# Altium integrated library Altera MAX II.IntLib: 229 symbols (part 19 of 19)
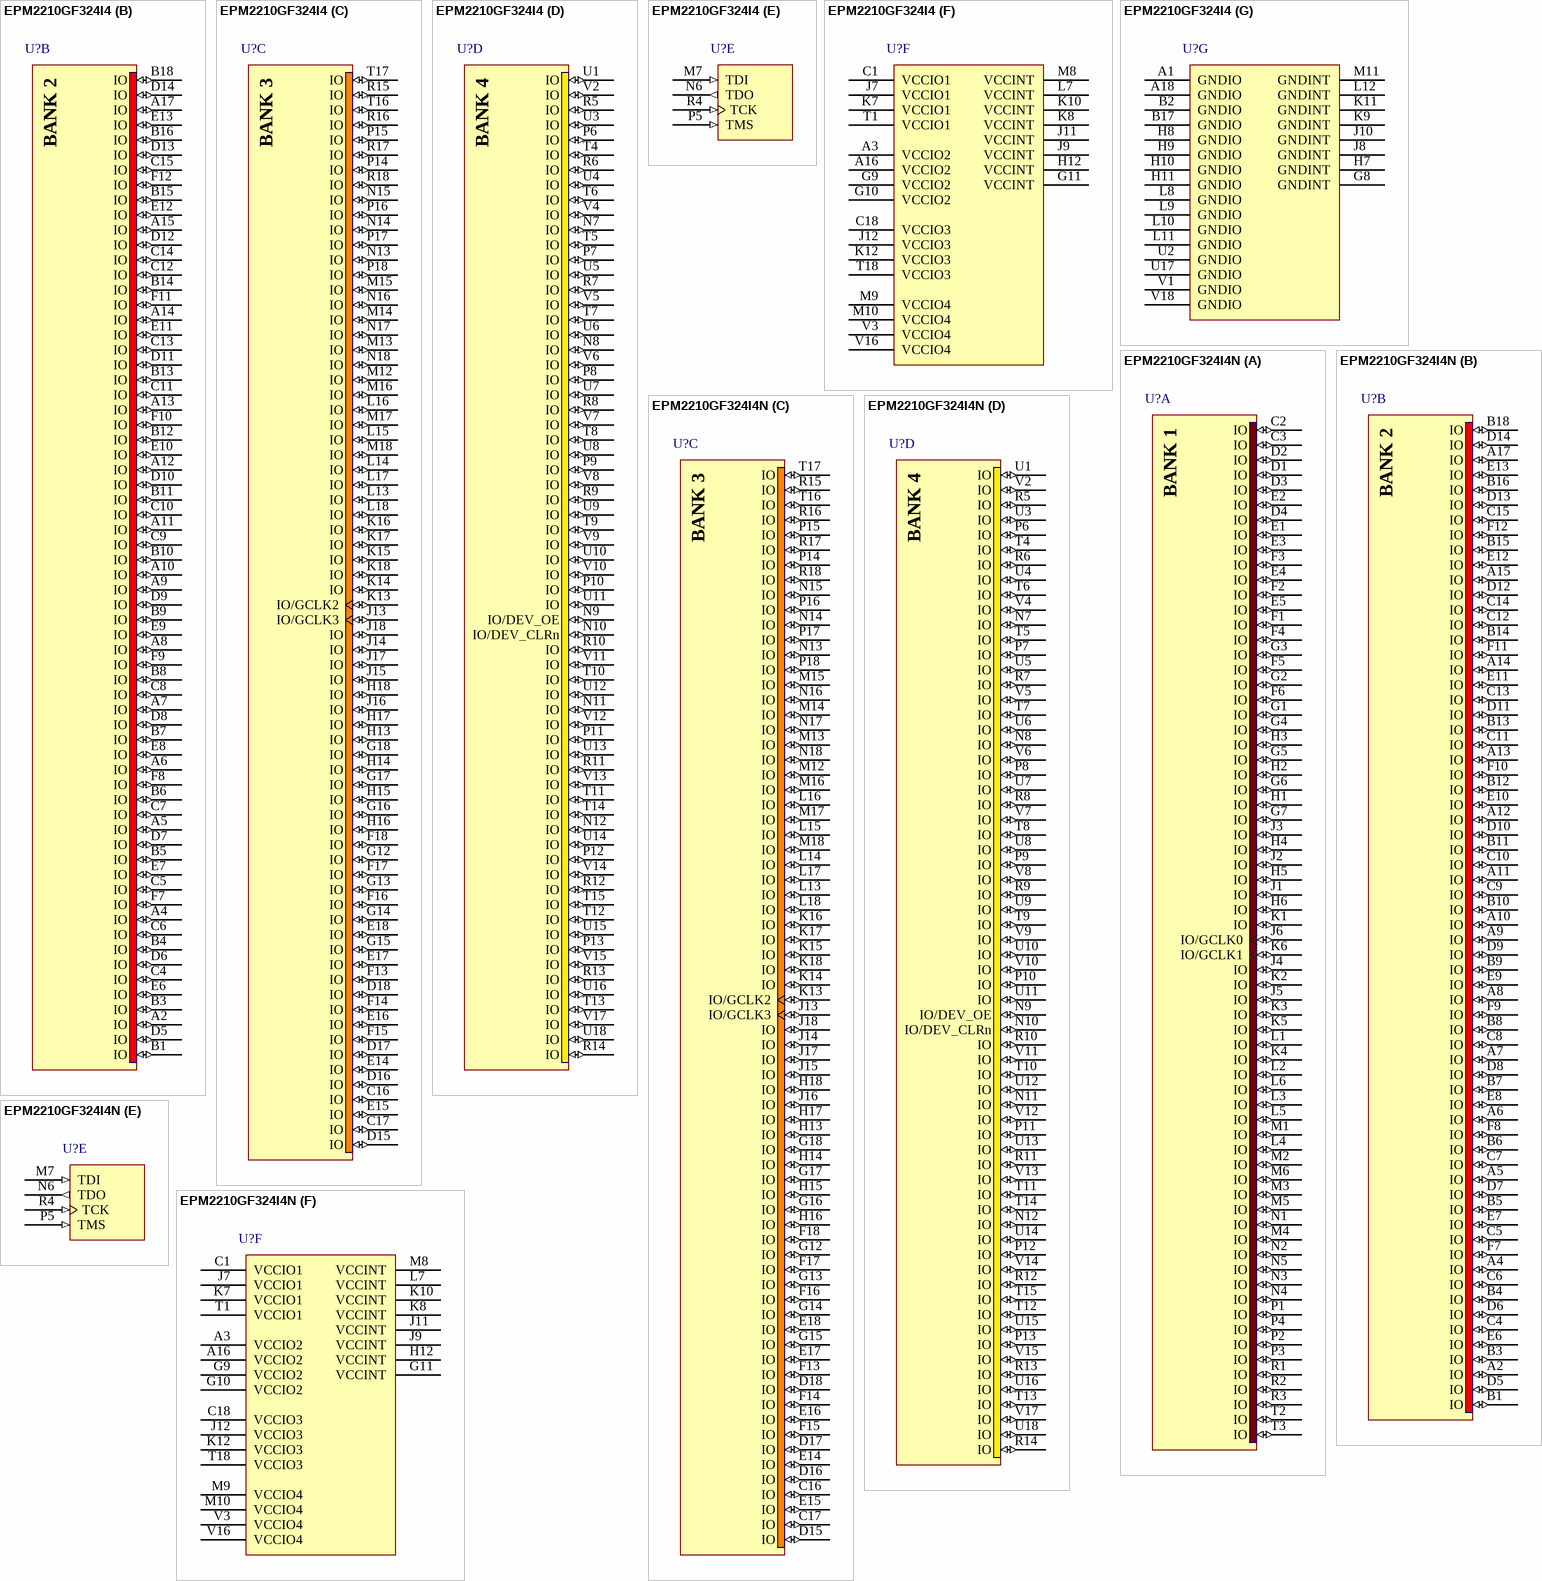
[diagram p142: symbols EPM2210GF324I4 to EPM2210GF324I4N]

## EPM2210GF324I4
designator U?
MAX II 1.8V CPLD, 272 IOs, 2,210 Logic Elements, 324-Pin FineLine BGA, Industrial Temperature, Speed Grade 4; Note: Each set of VCCIO pins can be connected to 3.3V, 2.5V, 1.8V, or 1.5V.; Note: All VCCINT pins must be connected to 1.8V.; Published: 18-Aug-2005; LatestRevisionDate: 13-Apr-2006; LatestRevisionNote: IPC-7351 Footprint Added.; DatasheetVersion: ver1.8, Jul-2006; PackageVersion: ver14.3, Jul-2006; PackageReference: FBGA324; Publisher: Altium Limited; PackageDescription: 324-Ball FineLine Ball Grid Array (FBGA324); Code_JEDEC: MS-034-AAG-1; Code_IPC: BGA100P18X18-324; ComponentLink1Description: Manufacturer Link; ComponentLink1URL: http://www.altera.com/products/devices/cpld/max2/mx2-index.jsp; ComponentLink2Description: Handbook; ComponentLink2URL: http://www.altera.com/literature/hb/max2/max2_mii5v1.pdf; ComponentLink3Description: Packaging Specification; ComponentLink3URL: http://www.altera.com/literature/ds/dspkg.pdf
footprint FBGA324 (BGA, 324-Leads, Body 19x19mm, Pitch 1mm)
3D model EPM2210-FBGA324 (324-Ball FineLine Ball Grid Array (FBGA324))
part A pins: C2 IO (io), C3 IO (io), D1 IO (io), D2 IO (io), D3 IO (io), D4 IO (io), E1 IO (io), E2 IO (io), E3 IO (io), E4 IO (io), E5 IO (io), F1 IO (io), F2 IO (io), F3 IO (io), F4 IO (io), F5 IO (io), F6 IO (io), G1 IO (io), G2 IO (io), G3 IO (io), G4 IO (io), G5 IO (io), G6 IO (io), G7 IO (io), H1 IO (io), H2 IO (io), H3 IO (io), H4 IO (io), H5 IO (io), H6 IO (io), J1 IO (io), J2 IO (io), J3 IO (io), J4 IO (io), J5 IO (io), J6 IO/GCLK0 (io), K1 IO (io), K2 IO (io), K3 IO (io), K4 IO (io), K5 IO (io), K6 IO/GCLK1 (io), L1 IO (io), L2 IO (io), L3 IO (io), L4 IO (io), L5 IO (io), L6 IO (io), M1 IO (io), M2 IO (io), M3 IO (io), M4 IO (io), M5 IO (io), M6 IO (io), N1 IO (io), N2 IO (io), N3 IO (io), N4 IO (io), N5 IO (io), P1 IO (io), P2 IO (io), P3 IO (io), P4 IO (io), R1 IO (io), R2 IO (io), R3 IO (io), T2 IO (io), T3 IO (io)
part B pins: A2 IO (io), A4 IO (io), A5 IO (io), A6 IO (io), A7 IO (io), A8 IO (io), A9 IO (io), A10 IO (io), A11 IO (io), A12 IO (io), A13 IO (io), A14 IO (io), A15 IO (io), A17 IO (io), B1 IO (io), B3 IO (io), B4 IO (io), B5 IO (io), B6 IO (io), B7 IO (io), B8 IO (io), B9 IO (io), B10 IO (io), B11 IO (io), B12 IO (io), B13 IO (io), B14 IO (io), B15 IO (io), B16 IO (io), B18 IO (io), C4 IO (io), C5 IO (io), C6 IO (io), C7 IO (io), C8 IO (io), C9 IO (io), C10 IO (io), C11 IO (io), C12 IO (io), C13 IO (io), C14 IO (io), C15 IO (io), D5 IO (io), D6 IO (io), D7 IO (io), D8 IO (io), D9 IO (io), D10 IO (io), D11 IO (io), D12 IO (io), D13 IO (io), D14 IO (io), E6 IO (io), E7 IO (io), E8 IO (io), E9 IO (io), E10 IO (io), E11 IO (io), E12 IO (io), E13 IO (io), F7 IO (io), F8 IO (io), F9 IO (io), F10 IO (io), F11 IO (io), F12 IO (io)
part C pins: C16 IO (io), C17 IO (io), D15 IO (io), D16 IO (io), D17 IO (io), D18 IO (io), E14 IO (io), E15 IO (io), E16 IO (io), E17 IO (io), E18 IO (io), F13 IO (io), F14 IO (io), F15 IO (io), F16 IO (io), F17 IO (io), F18 IO (io), G12 IO (io), G13 IO (io), G14 IO (io), G15 IO (io), G16 IO (io), G17 IO (io), G18 IO (io), H13 IO (io), H14 IO (io), H15 IO (io), H16 IO (io), H17 IO (io), H18 IO (io), J13 IO/GCLK3 (io), J14 IO (io), J15 IO (io), J16 IO (io), J17 IO (io), J18 IO (io), K13 IO/GCLK2 (io), K14 IO (io), K15 IO (io), K16 IO (io), K17 IO (io), K18 IO (io), L13 IO (io), L14 IO (io), L15 IO (io), L16 IO (io), L17 IO (io), L18 IO (io), M12 IO (io), M13 IO (io), M14 IO (io), M15 IO (io), M16 IO (io), M17 IO (io), M18 IO (io), N13 IO (io), N14 IO (io), N15 IO (io), N16 IO (io), N17 IO (io), N18 IO (io), P14 IO (io), P15 IO (io), P16 IO (io), P17 IO (io), P18 IO (io), R15 IO (io), R16 IO (io), R17 IO (io), R18 IO (io), T16 IO (io), T17 IO (io)
part D pins: N7 IO (io), N8 IO (io), N9 IO/DEV_OE (io), N10 IO/DEV_CLRn (io), N11 IO (io), N12 IO (io), P6 IO (io), P7 IO (io), P8 IO (io), P9 IO (io), P10 IO (io), P11 IO (io), P12 IO (io), P13 IO (io), R5 IO (io), R6 IO (io), R7 IO (io), R8 IO (io), R9 IO (io), R10 IO (io), R11 IO (io), R12 IO (io), R13 IO (io), R14 IO (io), T4 IO (io), T5 IO (io), T6 IO (io), T7 IO (io), T8 IO (io), T9 IO (io), T10 IO (io), T11 IO (io), T12 IO (io), T13 IO (io), T14 IO (io), T15 IO (io), U1 IO (io), U3 IO (io), U4 IO (io), U5 IO (io), U6 IO (io), U7 IO (io), U8 IO (io), U9 IO (io), U10 IO (io), U11 IO (io), U12 IO (io), U13 IO (io), U14 IO (io), U15 IO (io), U16 IO (io), U18 IO (io), V2 IO (io), V4 IO (io), V5 IO (io), V6 IO (io), V7 IO (io), V8 IO (io), V9 IO (io), V10 IO (io), V11 IO (io), V12 IO (io), V13 IO (io), V14 IO (io), V15 IO (io), V17 IO (io)
part E pins: M7 TDI (in), N6 TDO (out), P5 TMS (in), R4 TCK (in)
part F pins: A3 VCCIO2 (power), A16 VCCIO2 (power), C1 VCCIO1 (power), C18 VCCIO3 (power), G9 VCCIO2 (power), G10 VCCIO2 (power), G11 VCCINT (power), H12 VCCINT (power), J7 VCCIO1 (power), J9 VCCINT (power), J11 VCCINT (power), J12 VCCIO3 (power), K7 VCCIO1 (power), K8 VCCINT (power), K10 VCCINT (power), K12 VCCIO3 (power), L7 VCCINT (power), M8 VCCINT (power), M9 VCCIO4 (power), M10 VCCIO4 (power), T1 VCCIO1 (power), T18 VCCIO3 (power), V3 VCCIO4 (power), V16 VCCIO4 (power)
part G pins: A1 GNDIO (power), A18 GNDIO (power), B2 GNDIO (power), B17 GNDIO (power), G8 GNDINT (power), H7 GNDINT (power), H8 GNDIO (power), H9 GNDIO (power), H10 GNDIO (power), H11 GNDIO (power), J8 GNDINT (power), J10 GNDINT (power), K9 GNDINT (power), K11 GNDINT (power), L8 GNDIO (power), L9 GNDIO (power), L10 GNDIO (power), L11 GNDIO (power), L12 GNDINT (power), M11 GNDINT (power), U2 GNDIO (power), U17 GNDIO (power), V1 GNDIO (power), V18 GNDIO (power)
part A text: BANK 1
part B text: BANK 2
part C text: BANK 3
part D text: BANK 4

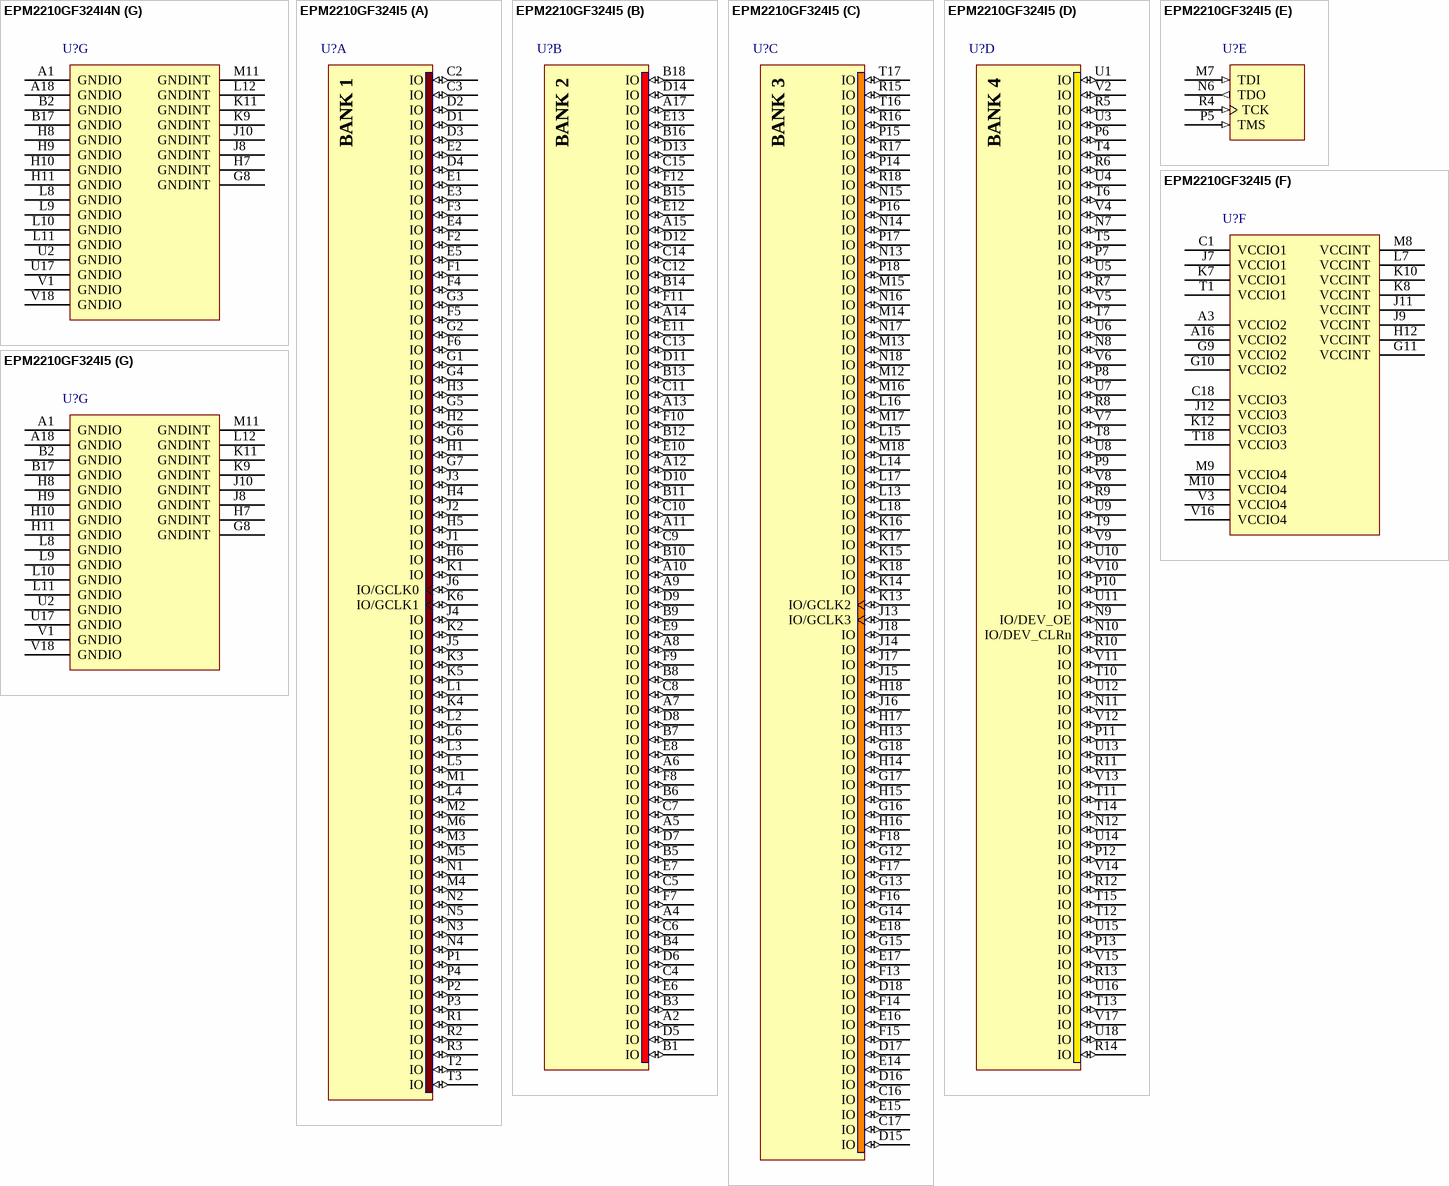
[diagram p123: symbols EPM2210GF324I4N to EPM2210GF324I5]

## EPM2210GF324I4N
designator U?
MAX II 1.8V CPLD, 272 IOs, 2,210 Logic Elements, 324-Pin FineLine BGA, Industrial Temperature, Speed Grade 4, Pb-Free; Note: Each set of VCCIO pins can be connected to 3.3V, 2.5V, 1.8V, or 1.5V.; Note: All VCCINT pins must be connected to 1.8V.; Published: 18-Aug-2005; LatestRevisionDate: 13-Apr-2006; LatestRevisionNote: IPC-7351 Footprint Added.; DatasheetVersion: ver1.8, Jul-2006; PackageVersion: ver14.3, Jul-2006; PackageReference: FBGA324; Publisher: Altium Limited; PackageDescription: 324-Ball FineLine Ball Grid Array (FBGA324); Code_JEDEC: MS-034-AAG-1; Code_IPC: BGA100P18X18-324; ComponentLink1Description: Manufacturer Link; ComponentLink1URL: http://www.altera.com/products/devices/cpld/max2/mx2-index.jsp; ComponentLink2Description: Handbook; ComponentLink2URL: http://www.altera.com/literature/hb/max2/max2_mii5v1.pdf; ComponentLink3Description: Packaging Specification; ComponentLink3URL: http://www.altera.com/literature/ds/dspkg.pdf
footprint FBGA324 (BGA, 324-Leads, Body 19x19mm, Pitch 1mm)
3D model EPM2210-FBGA324 (324-Ball FineLine Ball Grid Array (FBGA324))
part A pins: C2 IO (io), C3 IO (io), D1 IO (io), D2 IO (io), D3 IO (io), D4 IO (io), E1 IO (io), E2 IO (io), E3 IO (io), E4 IO (io), E5 IO (io), F1 IO (io), F2 IO (io), F3 IO (io), F4 IO (io), F5 IO (io), F6 IO (io), G1 IO (io), G2 IO (io), G3 IO (io), G4 IO (io), G5 IO (io), G6 IO (io), G7 IO (io), H1 IO (io), H2 IO (io), H3 IO (io), H4 IO (io), H5 IO (io), H6 IO (io), J1 IO (io), J2 IO (io), J3 IO (io), J4 IO (io), J5 IO (io), J6 IO/GCLK0 (io), K1 IO (io), K2 IO (io), K3 IO (io), K4 IO (io), K5 IO (io), K6 IO/GCLK1 (io), L1 IO (io), L2 IO (io), L3 IO (io), L4 IO (io), L5 IO (io), L6 IO (io), M1 IO (io), M2 IO (io), M3 IO (io), M4 IO (io), M5 IO (io), M6 IO (io), N1 IO (io), N2 IO (io), N3 IO (io), N4 IO (io), N5 IO (io), P1 IO (io), P2 IO (io), P3 IO (io), P4 IO (io), R1 IO (io), R2 IO (io), R3 IO (io), T2 IO (io), T3 IO (io)
part B pins: A2 IO (io), A4 IO (io), A5 IO (io), A6 IO (io), A7 IO (io), A8 IO (io), A9 IO (io), A10 IO (io), A11 IO (io), A12 IO (io), A13 IO (io), A14 IO (io), A15 IO (io), A17 IO (io), B1 IO (io), B3 IO (io), B4 IO (io), B5 IO (io), B6 IO (io), B7 IO (io), B8 IO (io), B9 IO (io), B10 IO (io), B11 IO (io), B12 IO (io), B13 IO (io), B14 IO (io), B15 IO (io), B16 IO (io), B18 IO (io), C4 IO (io), C5 IO (io), C6 IO (io), C7 IO (io), C8 IO (io), C9 IO (io), C10 IO (io), C11 IO (io), C12 IO (io), C13 IO (io), C14 IO (io), C15 IO (io), D5 IO (io), D6 IO (io), D7 IO (io), D8 IO (io), D9 IO (io), D10 IO (io), D11 IO (io), D12 IO (io), D13 IO (io), D14 IO (io), E6 IO (io), E7 IO (io), E8 IO (io), E9 IO (io), E10 IO (io), E11 IO (io), E12 IO (io), E13 IO (io), F7 IO (io), F8 IO (io), F9 IO (io), F10 IO (io), F11 IO (io), F12 IO (io)
part C pins: C16 IO (io), C17 IO (io), D15 IO (io), D16 IO (io), D17 IO (io), D18 IO (io), E14 IO (io), E15 IO (io), E16 IO (io), E17 IO (io), E18 IO (io), F13 IO (io), F14 IO (io), F15 IO (io), F16 IO (io), F17 IO (io), F18 IO (io), G12 IO (io), G13 IO (io), G14 IO (io), G15 IO (io), G16 IO (io), G17 IO (io), G18 IO (io), H13 IO (io), H14 IO (io), H15 IO (io), H16 IO (io), H17 IO (io), H18 IO (io), J13 IO/GCLK3 (io), J14 IO (io), J15 IO (io), J16 IO (io), J17 IO (io), J18 IO (io), K13 IO/GCLK2 (io), K14 IO (io), K15 IO (io), K16 IO (io), K17 IO (io), K18 IO (io), L13 IO (io), L14 IO (io), L15 IO (io), L16 IO (io), L17 IO (io), L18 IO (io), M12 IO (io), M13 IO (io), M14 IO (io), M15 IO (io), M16 IO (io), M17 IO (io), M18 IO (io), N13 IO (io), N14 IO (io), N15 IO (io), N16 IO (io), N17 IO (io), N18 IO (io), P14 IO (io), P15 IO (io), P16 IO (io), P17 IO (io), P18 IO (io), R15 IO (io), R16 IO (io), R17 IO (io), R18 IO (io), T16 IO (io), T17 IO (io)
part D pins: N7 IO (io), N8 IO (io), N9 IO/DEV_OE (io), N10 IO/DEV_CLRn (io), N11 IO (io), N12 IO (io), P6 IO (io), P7 IO (io), P8 IO (io), P9 IO (io), P10 IO (io), P11 IO (io), P12 IO (io), P13 IO (io), R5 IO (io), R6 IO (io), R7 IO (io), R8 IO (io), R9 IO (io), R10 IO (io), R11 IO (io), R12 IO (io), R13 IO (io), R14 IO (io), T4 IO (io), T5 IO (io), T6 IO (io), T7 IO (io), T8 IO (io), T9 IO (io), T10 IO (io), T11 IO (io), T12 IO (io), T13 IO (io), T14 IO (io), T15 IO (io), U1 IO (io), U3 IO (io), U4 IO (io), U5 IO (io), U6 IO (io), U7 IO (io), U8 IO (io), U9 IO (io), U10 IO (io), U11 IO (io), U12 IO (io), U13 IO (io), U14 IO (io), U15 IO (io), U16 IO (io), U18 IO (io), V2 IO (io), V4 IO (io), V5 IO (io), V6 IO (io), V7 IO (io), V8 IO (io), V9 IO (io), V10 IO (io), V11 IO (io), V12 IO (io), V13 IO (io), V14 IO (io), V15 IO (io), V17 IO (io)
part E pins: M7 TDI (in), N6 TDO (out), P5 TMS (in), R4 TCK (in)
part F pins: A3 VCCIO2 (power), A16 VCCIO2 (power), C1 VCCIO1 (power), C18 VCCIO3 (power), G9 VCCIO2 (power), G10 VCCIO2 (power), G11 VCCINT (power), H12 VCCINT (power), J7 VCCIO1 (power), J9 VCCINT (power), J11 VCCINT (power), J12 VCCIO3 (power), K7 VCCIO1 (power), K8 VCCINT (power), K10 VCCINT (power), K12 VCCIO3 (power), L7 VCCINT (power), M8 VCCINT (power), M9 VCCIO4 (power), M10 VCCIO4 (power), T1 VCCIO1 (power), T18 VCCIO3 (power), V3 VCCIO4 (power), V16 VCCIO4 (power)
part G pins: A1 GNDIO (power), A18 GNDIO (power), B2 GNDIO (power), B17 GNDIO (power), G8 GNDINT (power), H7 GNDINT (power), H8 GNDIO (power), H9 GNDIO (power), H10 GNDIO (power), H11 GNDIO (power), J8 GNDINT (power), J10 GNDINT (power), K9 GNDINT (power), K11 GNDINT (power), L8 GNDIO (power), L9 GNDIO (power), L10 GNDIO (power), L11 GNDIO (power), L12 GNDINT (power), M11 GNDINT (power), U2 GNDIO (power), U17 GNDIO (power), V1 GNDIO (power), V18 GNDIO (power)
part A text: BANK 1
part B text: BANK 2
part C text: BANK 3
part D text: BANK 4

## EPM2210GF324I5
designator U?
MAX II 1.8V CPLD, 272 IOs, 2,210 Logic Elements, 324-Pin FineLine BGA, Industrial Temperature, Speed Grade 5; Note: Each set of VCCIO pins can be connected to 3.3V, 2.5V, 1.8V, or 1.5V.; Note: All VCCINT pins must be connected to 1.8V.; Published: 18-Aug-2005; LatestRevisionDate: 13-Apr-2006; LatestRevisionNote: IPC-7351 Footprint Added.; DatasheetVersion: ver1.8, Jul-2006; PackageVersion: ver14.3, Jul-2006; PackageReference: FBGA324; Publisher: Altium Limited; PackageDescription: 324-Ball FineLine Ball Grid Array (FBGA324); Code_JEDEC: MS-034-AAG-1; Code_IPC: BGA100P18X18-324; ComponentLink1Description: Manufacturer Link; ComponentLink1URL: http://www.altera.com/products/devices/cpld/max2/mx2-index.jsp; ComponentLink2Description: Handbook; ComponentLink2URL: http://www.altera.com/literature/hb/max2/max2_mii5v1.pdf; ComponentLink3Description: Packaging Specification; ComponentLink3URL: http://www.altera.com/literature/ds/dspkg.pdf
footprint FBGA324 (BGA, 324-Leads, Body 19x19mm, Pitch 1mm)
3D model EPM2210-FBGA324 (324-Ball FineLine Ball Grid Array (FBGA324))
part A pins: C2 IO (io), C3 IO (io), D1 IO (io), D2 IO (io), D3 IO (io), D4 IO (io), E1 IO (io), E2 IO (io), E3 IO (io), E4 IO (io), E5 IO (io), F1 IO (io), F2 IO (io), F3 IO (io), F4 IO (io), F5 IO (io), F6 IO (io), G1 IO (io), G2 IO (io), G3 IO (io), G4 IO (io), G5 IO (io), G6 IO (io), G7 IO (io), H1 IO (io), H2 IO (io), H3 IO (io), H4 IO (io), H5 IO (io), H6 IO (io), J1 IO (io), J2 IO (io), J3 IO (io), J4 IO (io), J5 IO (io), J6 IO/GCLK0 (io), K1 IO (io), K2 IO (io), K3 IO (io), K4 IO (io), K5 IO (io), K6 IO/GCLK1 (io), L1 IO (io), L2 IO (io), L3 IO (io), L4 IO (io), L5 IO (io), L6 IO (io), M1 IO (io), M2 IO (io), M3 IO (io), M4 IO (io), M5 IO (io), M6 IO (io), N1 IO (io), N2 IO (io), N3 IO (io), N4 IO (io), N5 IO (io), P1 IO (io), P2 IO (io), P3 IO (io), P4 IO (io), R1 IO (io), R2 IO (io), R3 IO (io), T2 IO (io), T3 IO (io)
part B pins: A2 IO (io), A4 IO (io), A5 IO (io), A6 IO (io), A7 IO (io), A8 IO (io), A9 IO (io), A10 IO (io), A11 IO (io), A12 IO (io), A13 IO (io), A14 IO (io), A15 IO (io), A17 IO (io), B1 IO (io), B3 IO (io), B4 IO (io), B5 IO (io), B6 IO (io), B7 IO (io), B8 IO (io), B9 IO (io), B10 IO (io), B11 IO (io), B12 IO (io), B13 IO (io), B14 IO (io), B15 IO (io), B16 IO (io), B18 IO (io), C4 IO (io), C5 IO (io), C6 IO (io), C7 IO (io), C8 IO (io), C9 IO (io), C10 IO (io), C11 IO (io), C12 IO (io), C13 IO (io), C14 IO (io), C15 IO (io), D5 IO (io), D6 IO (io), D7 IO (io), D8 IO (io), D9 IO (io), D10 IO (io), D11 IO (io), D12 IO (io), D13 IO (io), D14 IO (io), E6 IO (io), E7 IO (io), E8 IO (io), E9 IO (io), E10 IO (io), E11 IO (io), E12 IO (io), E13 IO (io), F7 IO (io), F8 IO (io), F9 IO (io), F10 IO (io), F11 IO (io), F12 IO (io)
part C pins: C16 IO (io), C17 IO (io), D15 IO (io), D16 IO (io), D17 IO (io), D18 IO (io), E14 IO (io), E15 IO (io), E16 IO (io), E17 IO (io), E18 IO (io), F13 IO (io), F14 IO (io), F15 IO (io), F16 IO (io), F17 IO (io), F18 IO (io), G12 IO (io), G13 IO (io), G14 IO (io), G15 IO (io), G16 IO (io), G17 IO (io), G18 IO (io), H13 IO (io), H14 IO (io), H15 IO (io), H16 IO (io), H17 IO (io), H18 IO (io), J13 IO/GCLK3 (io), J14 IO (io), J15 IO (io), J16 IO (io), J17 IO (io), J18 IO (io), K13 IO/GCLK2 (io), K14 IO (io), K15 IO (io), K16 IO (io), K17 IO (io), K18 IO (io), L13 IO (io), L14 IO (io), L15 IO (io), L16 IO (io), L17 IO (io), L18 IO (io), M12 IO (io), M13 IO (io), M14 IO (io), M15 IO (io), M16 IO (io), M17 IO (io), M18 IO (io), N13 IO (io), N14 IO (io), N15 IO (io), N16 IO (io), N17 IO (io), N18 IO (io), P14 IO (io), P15 IO (io), P16 IO (io), P17 IO (io), P18 IO (io), R15 IO (io), R16 IO (io), R17 IO (io), R18 IO (io), T16 IO (io), T17 IO (io)
part D pins: N7 IO (io), N8 IO (io), N9 IO/DEV_OE (io), N10 IO/DEV_CLRn (io), N11 IO (io), N12 IO (io), P6 IO (io), P7 IO (io), P8 IO (io), P9 IO (io), P10 IO (io), P11 IO (io), P12 IO (io), P13 IO (io), R5 IO (io), R6 IO (io), R7 IO (io), R8 IO (io), R9 IO (io), R10 IO (io), R11 IO (io), R12 IO (io), R13 IO (io), R14 IO (io), T4 IO (io), T5 IO (io), T6 IO (io), T7 IO (io), T8 IO (io), T9 IO (io), T10 IO (io), T11 IO (io), T12 IO (io), T13 IO (io), T14 IO (io), T15 IO (io), U1 IO (io), U3 IO (io), U4 IO (io), U5 IO (io), U6 IO (io), U7 IO (io), U8 IO (io), U9 IO (io), U10 IO (io), U11 IO (io), U12 IO (io), U13 IO (io), U14 IO (io), U15 IO (io), U16 IO (io), U18 IO (io), V2 IO (io), V4 IO (io), V5 IO (io), V6 IO (io), V7 IO (io), V8 IO (io), V9 IO (io), V10 IO (io), V11 IO (io), V12 IO (io), V13 IO (io), V14 IO (io), V15 IO (io), V17 IO (io)
part E pins: M7 TDI (in), N6 TDO (out), P5 TMS (in), R4 TCK (in)
part F pins: A3 VCCIO2 (power), A16 VCCIO2 (power), C1 VCCIO1 (power), C18 VCCIO3 (power), G9 VCCIO2 (power), G10 VCCIO2 (power), G11 VCCINT (power), H12 VCCINT (power), J7 VCCIO1 (power), J9 VCCINT (power), J11 VCCINT (power), J12 VCCIO3 (power), K7 VCCIO1 (power), K8 VCCINT (power), K10 VCCINT (power), K12 VCCIO3 (power), L7 VCCINT (power), M8 VCCINT (power), M9 VCCIO4 (power), M10 VCCIO4 (power), T1 VCCIO1 (power), T18 VCCIO3 (power), V3 VCCIO4 (power), V16 VCCIO4 (power)
part G pins: A1 GNDIO (power), A18 GNDIO (power), B2 GNDIO (power), B17 GNDIO (power), G8 GNDINT (power), H7 GNDINT (power), H8 GNDIO (power), H9 GNDIO (power), H10 GNDIO (power), H11 GNDIO (power), J8 GNDINT (power), J10 GNDINT (power), K9 GNDINT (power), K11 GNDINT (power), L8 GNDIO (power), L9 GNDIO (power), L10 GNDIO (power), L11 GNDIO (power), L12 GNDINT (power), M11 GNDINT (power), U2 GNDIO (power), U17 GNDIO (power), V1 GNDIO (power), V18 GNDIO (power)
part A text: BANK 1
part B text: BANK 2
part C text: BANK 3
part D text: BANK 4

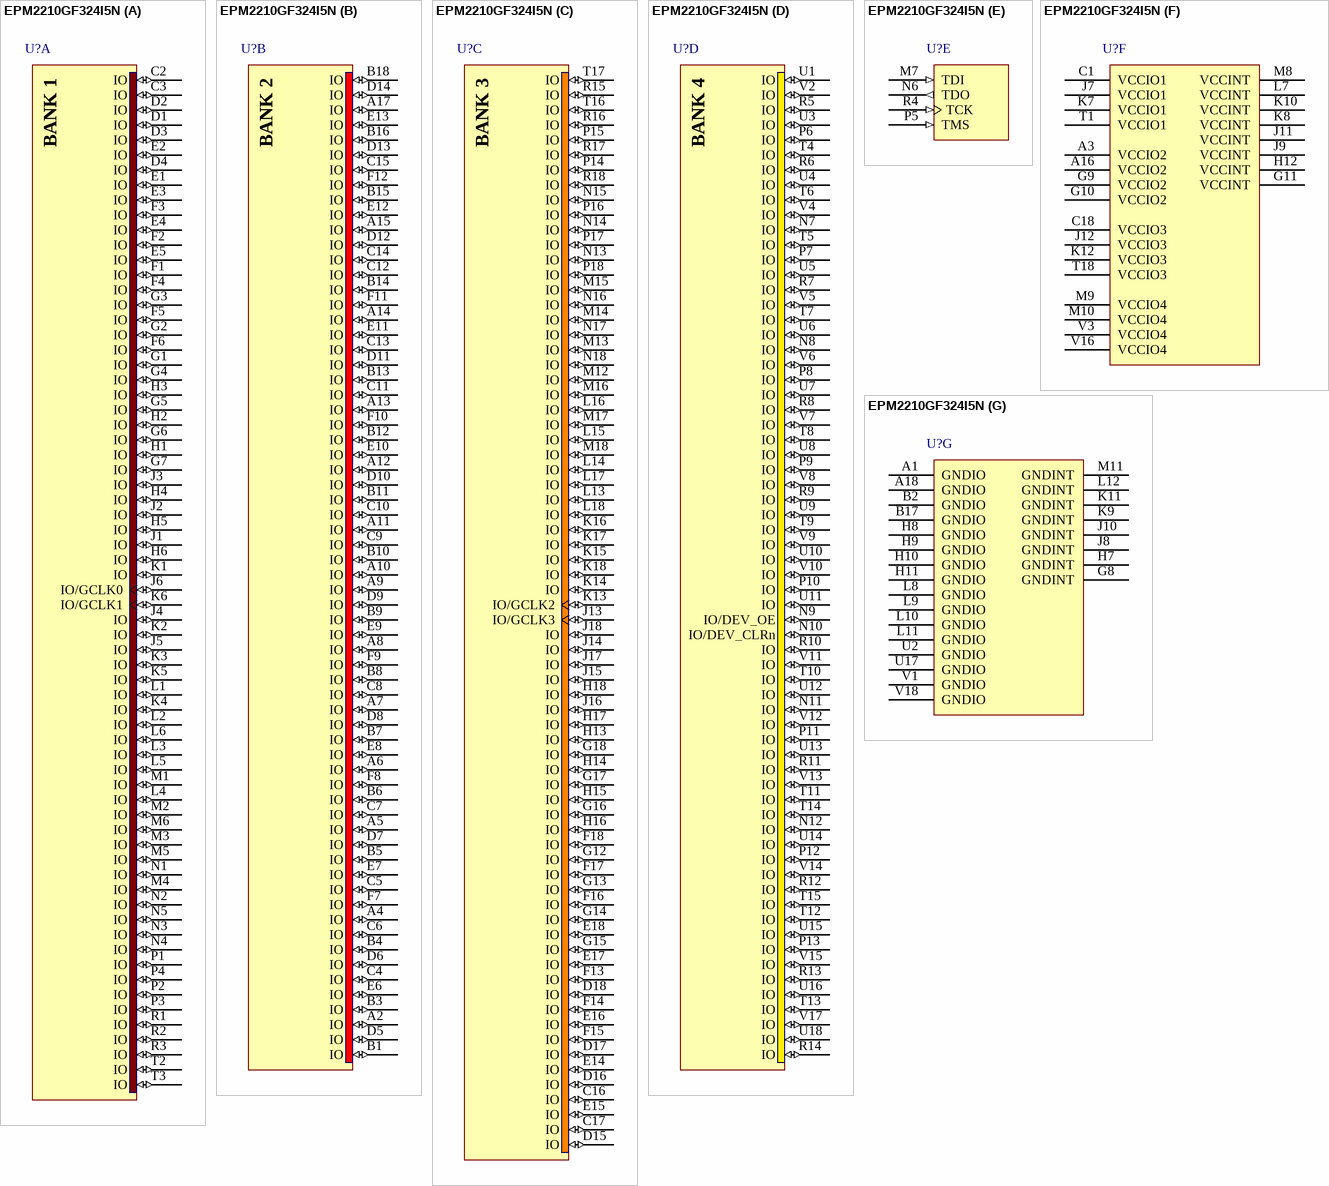
[diagram p124: symbol EPM2210GF324I5N]

## EPM2210GF324I5N
designator U?
MAX II 1.8V CPLD, 272 IOs, 2,210 Logic Elements, 324-Pin FineLine BGA, Industrial Temperature, Speed Grade 5, Pb-Free; Note: Each set of VCCIO pins can be connected to 3.3V, 2.5V, 1.8V, or 1.5V.; Note: All VCCINT pins must be connected to 1.8V.; Published: 18-Aug-2005; LatestRevisionDate: 13-Apr-2006; LatestRevisionNote: IPC-7351 Footprint Added.; DatasheetVersion: ver1.8, Jul-2006; PackageVersion: ver14.3, Jul-2006; PackageReference: FBGA324; Publisher: Altium Limited; PackageDescription: 324-Ball FineLine Ball Grid Array (FBGA324); Code_JEDEC: MS-034-AAG-1; Code_IPC: BGA100P18X18-324; ComponentLink1Description: Manufacturer Link; ComponentLink1URL: http://www.altera.com/products/devices/cpld/max2/mx2-index.jsp; ComponentLink2Description: Handbook; ComponentLink2URL: http://www.altera.com/literature/hb/max2/max2_mii5v1.pdf; ComponentLink3Description: Packaging Specification; ComponentLink3URL: http://www.altera.com/literature/ds/dspkg.pdf
footprint FBGA324 (BGA, 324-Leads, Body 19x19mm, Pitch 1mm)
3D model EPM2210-FBGA324 (324-Ball FineLine Ball Grid Array (FBGA324))
part A pins: C2 IO (io), C3 IO (io), D1 IO (io), D2 IO (io), D3 IO (io), D4 IO (io), E1 IO (io), E2 IO (io), E3 IO (io), E4 IO (io), E5 IO (io), F1 IO (io), F2 IO (io), F3 IO (io), F4 IO (io), F5 IO (io), F6 IO (io), G1 IO (io), G2 IO (io), G3 IO (io), G4 IO (io), G5 IO (io), G6 IO (io), G7 IO (io), H1 IO (io), H2 IO (io), H3 IO (io), H4 IO (io), H5 IO (io), H6 IO (io), J1 IO (io), J2 IO (io), J3 IO (io), J4 IO (io), J5 IO (io), J6 IO/GCLK0 (io), K1 IO (io), K2 IO (io), K3 IO (io), K4 IO (io), K5 IO (io), K6 IO/GCLK1 (io), L1 IO (io), L2 IO (io), L3 IO (io), L4 IO (io), L5 IO (io), L6 IO (io), M1 IO (io), M2 IO (io), M3 IO (io), M4 IO (io), M5 IO (io), M6 IO (io), N1 IO (io), N2 IO (io), N3 IO (io), N4 IO (io), N5 IO (io), P1 IO (io), P2 IO (io), P3 IO (io), P4 IO (io), R1 IO (io), R2 IO (io), R3 IO (io), T2 IO (io), T3 IO (io)
part B pins: A2 IO (io), A4 IO (io), A5 IO (io), A6 IO (io), A7 IO (io), A8 IO (io), A9 IO (io), A10 IO (io), A11 IO (io), A12 IO (io), A13 IO (io), A14 IO (io), A15 IO (io), A17 IO (io), B1 IO (io), B3 IO (io), B4 IO (io), B5 IO (io), B6 IO (io), B7 IO (io), B8 IO (io), B9 IO (io), B10 IO (io), B11 IO (io), B12 IO (io), B13 IO (io), B14 IO (io), B15 IO (io), B16 IO (io), B18 IO (io), C4 IO (io), C5 IO (io), C6 IO (io), C7 IO (io), C8 IO (io), C9 IO (io), C10 IO (io), C11 IO (io), C12 IO (io), C13 IO (io), C14 IO (io), C15 IO (io), D5 IO (io), D6 IO (io), D7 IO (io), D8 IO (io), D9 IO (io), D10 IO (io), D11 IO (io), D12 IO (io), D13 IO (io), D14 IO (io), E6 IO (io), E7 IO (io), E8 IO (io), E9 IO (io), E10 IO (io), E11 IO (io), E12 IO (io), E13 IO (io), F7 IO (io), F8 IO (io), F9 IO (io), F10 IO (io), F11 IO (io), F12 IO (io)
part C pins: C16 IO (io), C17 IO (io), D15 IO (io), D16 IO (io), D17 IO (io), D18 IO (io), E14 IO (io), E15 IO (io), E16 IO (io), E17 IO (io), E18 IO (io), F13 IO (io), F14 IO (io), F15 IO (io), F16 IO (io), F17 IO (io), F18 IO (io), G12 IO (io), G13 IO (io), G14 IO (io), G15 IO (io), G16 IO (io), G17 IO (io), G18 IO (io), H13 IO (io), H14 IO (io), H15 IO (io), H16 IO (io), H17 IO (io), H18 IO (io), J13 IO/GCLK3 (io), J14 IO (io), J15 IO (io), J16 IO (io), J17 IO (io), J18 IO (io), K13 IO/GCLK2 (io), K14 IO (io), K15 IO (io), K16 IO (io), K17 IO (io), K18 IO (io), L13 IO (io), L14 IO (io), L15 IO (io), L16 IO (io), L17 IO (io), L18 IO (io), M12 IO (io), M13 IO (io), M14 IO (io), M15 IO (io), M16 IO (io), M17 IO (io), M18 IO (io), N13 IO (io), N14 IO (io), N15 IO (io), N16 IO (io), N17 IO (io), N18 IO (io), P14 IO (io), P15 IO (io), P16 IO (io), P17 IO (io), P18 IO (io), R15 IO (io), R16 IO (io), R17 IO (io), R18 IO (io), T16 IO (io), T17 IO (io)
part D pins: N7 IO (io), N8 IO (io), N9 IO/DEV_OE (io), N10 IO/DEV_CLRn (io), N11 IO (io), N12 IO (io), P6 IO (io), P7 IO (io), P8 IO (io), P9 IO (io), P10 IO (io), P11 IO (io), P12 IO (io), P13 IO (io), R5 IO (io), R6 IO (io), R7 IO (io), R8 IO (io), R9 IO (io), R10 IO (io), R11 IO (io), R12 IO (io), R13 IO (io), R14 IO (io), T4 IO (io), T5 IO (io), T6 IO (io), T7 IO (io), T8 IO (io), T9 IO (io), T10 IO (io), T11 IO (io), T12 IO (io), T13 IO (io), T14 IO (io), T15 IO (io), U1 IO (io), U3 IO (io), U4 IO (io), U5 IO (io), U6 IO (io), U7 IO (io), U8 IO (io), U9 IO (io), U10 IO (io), U11 IO (io), U12 IO (io), U13 IO (io), U14 IO (io), U15 IO (io), U16 IO (io), U18 IO (io), V2 IO (io), V4 IO (io), V5 IO (io), V6 IO (io), V7 IO (io), V8 IO (io), V9 IO (io), V10 IO (io), V11 IO (io), V12 IO (io), V13 IO (io), V14 IO (io), V15 IO (io), V17 IO (io)
part E pins: M7 TDI (in), N6 TDO (out), P5 TMS (in), R4 TCK (in)
part F pins: A3 VCCIO2 (power), A16 VCCIO2 (power), C1 VCCIO1 (power), C18 VCCIO3 (power), G9 VCCIO2 (power), G10 VCCIO2 (power), G11 VCCINT (power), H12 VCCINT (power), J7 VCCIO1 (power), J9 VCCINT (power), J11 VCCINT (power), J12 VCCIO3 (power), K7 VCCIO1 (power), K8 VCCINT (power), K10 VCCINT (power), K12 VCCIO3 (power), L7 VCCINT (power), M8 VCCINT (power), M9 VCCIO4 (power), M10 VCCIO4 (power), T1 VCCIO1 (power), T18 VCCIO3 (power), V3 VCCIO4 (power), V16 VCCIO4 (power)
part G pins: A1 GNDIO (power), A18 GNDIO (power), B2 GNDIO (power), B17 GNDIO (power), G8 GNDINT (power), H7 GNDINT (power), H8 GNDIO (power), H9 GNDIO (power), H10 GNDIO (power), H11 GNDIO (power), J8 GNDINT (power), J10 GNDINT (power), K9 GNDINT (power), K11 GNDINT (power), L8 GNDIO (power), L9 GNDIO (power), L10 GNDIO (power), L11 GNDIO (power), L12 GNDINT (power), M11 GNDINT (power), U2 GNDIO (power), U17 GNDIO (power), V1 GNDIO (power), V18 GNDIO (power)
part A text: BANK 1
part B text: BANK 2
part C text: BANK 3
part D text: BANK 4